# EAGLE library part SWITCH_ELMA_08-12XX (library 1A-meinLib)
Rotary Switches Type 08, ELMA für PCB, 12-polig
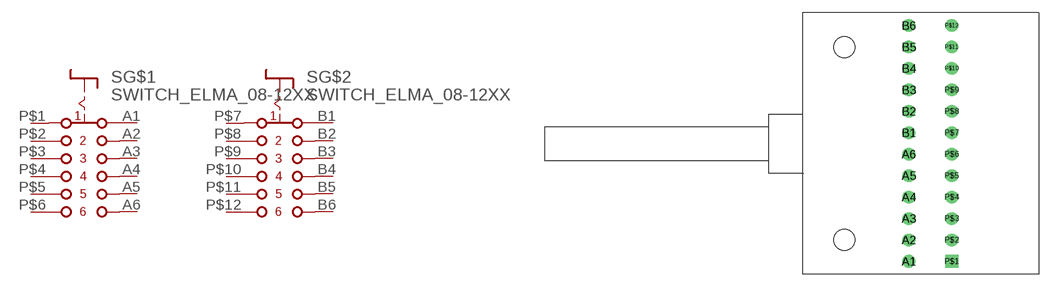
[diagram p181: symbol with the pads of SWITCH_ELMA_08-1EBENE; footprint SWITCH_ELMA_08-1EBENE]

Designator prefix S; gates G$1=SWITCH-6POL-EINZELN G$2=SWITCH-6POL-EINZELN

## SWITCH_ELMA_08-12XX  [SWITCH_ELMA_08-1EBENE]
A1  G$1:A1  pas
A2  G$1:A2  pas
A3  G$1:A3  pas
A4  G$1:A4  pas
A5  G$1:A5  pas
A6  G$1:A6  pas
B1  G$2:A1  pas
B2  G$2:A2  pas
B3  G$2:A3  pas
B4  G$2:A4  pas
B5  G$2:A5  pas
B6  G$2:A6  pas
P$1  G$1:1  pas
P$2  G$1:2  pas
P$3  G$1:3  pas
P$4  G$1:4  pas
P$5  G$1:5  pas
P$6  G$1:6  pas
P$7  G$2:1  pas
P$8  G$2:2  pas
P$9  G$2:3  pas
P$10  G$2:4  pas
P$11  G$2:5  pas
P$12  G$2:6  pas

## Footprint SWITCH_ELMA_08-1EBENE (pad centres in mm)
drill 1 round: A1 -5.08,-13.97; A2 -5.08,-11.43; A3 -5.08,-8.89; A4 -5.08,-6.35; A5 -5.08,-3.81; A6 -5.08,-1.27; B1 -5.08,1.27; B2 -5.08,3.81; B3 -5.08,6.35; B4 -5.08,8.89; B5 -5.08,11.43; B6 -5.08,13.97; P$2 0,-11.43; P$3 0,-8.89; P$4 0,-6.35; P$5 0,-3.81; P$6 0,-1.27; P$7 0,1.27; P$8 0,3.81; P$9 0,6.35; P$10 0,8.89; P$11 0,11.43; P$12 0,13.97
drill 1 square: P$1 0,-13.97
hole 2.499 at -12.7,11.43
hole 2.499 at -12.7,-11.43